# EAGLE library part MCP6002-E/SN (library 1Nico)
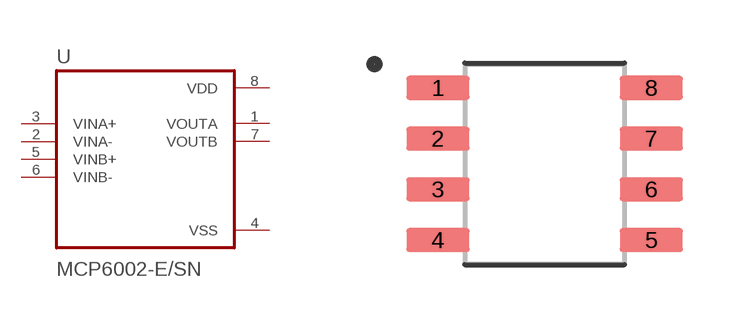
[diagram p3: symbol with the pads of SOIC127P599X175-8N; footprint SOIC127P599X175-8N]

Designator prefix -

## MCP6002-E/SN (AVAILABILITY: Unavailable; DESCRIPTION: General Purpose Amplifier 2 Circuit Rail-to-Rail 8-SOIC; MF: Microchip; MP: MCP6002-E/SN; PACKAGE: SOIC-8 Microchip; PRICE: None)  [SOIC127P599X175-8N]
1  VOUTA  out
2  VINA-  in
3  VINA+  in
4  VSS  pwr
5  VINB+  in
6  VINB-  in
7  VOUTB  out
8  VDD  pwr

## Footprint SOIC127P599X175-8N (pad centres in mm)
smd 1.58 x 0.6: 1 -2.67,1.905; 2 -2.67,0.635; 3 -2.67,-0.635; 4 -2.67,-1.905; 5 2.67,-1.905; 6 2.67,-0.635; 7 2.67,0.635; 8 2.67,1.905